# EAGLE library part DEC40PIN (library dec-con)
PIN HEADER
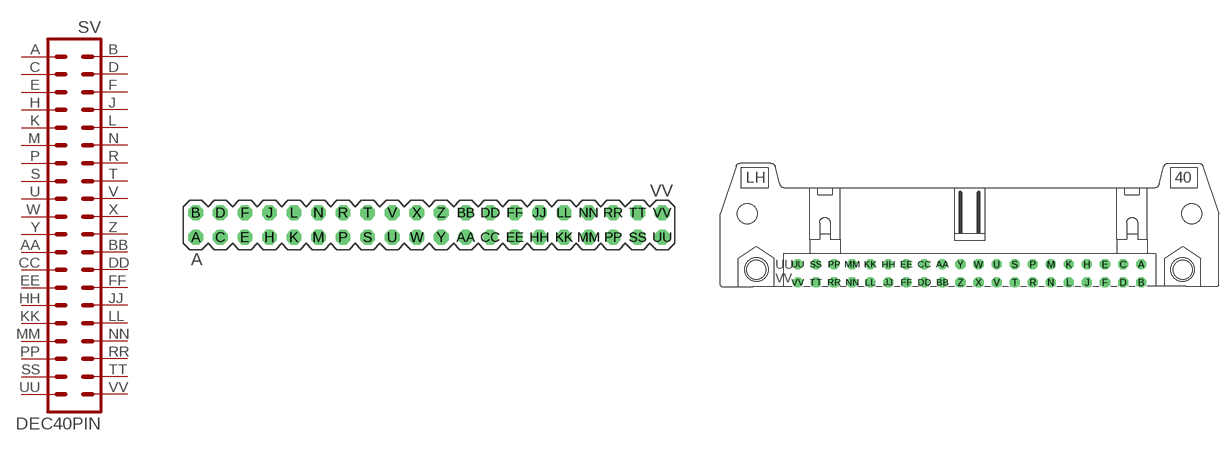
[diagram p8: symbol with the pads of DEC40PINV; footprints DEC40PINV, DEC40PINH]

Designator prefix SV

## DEC40PINV  [DEC40PINV]
A  1  pas
AA  23  pas
B  2  pas
BB  24  pas
C  3  pas
CC  25  pas
D  4  pas
DD  26  pas
E  5  pas
EE  27  pas
F  6  pas
FF  28  pas
H  7  pas
HH  29  pas
J  8  pas
JJ  30  pas
K  9  pas
KK  31  pas
L  10  pas
LL  32  pas
M  11  pas
MM  33  pas
N  12  pas
NN  34  pas
P  13  pas
PP  35  pas
R  14  pas
RR  36  pas
S  15  pas
SS  37  pas
T  16  pas
TT  38  pas
U  17  pas
UU  39  pas
V  18  pas
VV  40  pas
W  19  pas
X  20  pas
Y  21  pas
Z  22  pas

## DEC40PINH  [DEC40PINH]
Pads as for DEC40PINV

## Footprint DEC40PINV (pad centres in mm)
PIN HEADER
drill 1.016 octagon: A -24.13,-1.27; AA 3.81,-1.27; B -24.13,1.27; BB 3.81,1.27; C -21.59,-1.27; CC 6.35,-1.27; D -21.59,1.27; DD 6.35,1.27; E -19.05,-1.27; EE 8.89,-1.27; F -19.05,1.27; FF 8.89,1.27; H -16.51,-1.27; HH 11.43,-1.27; J -16.51,1.27; JJ 11.43,1.27; K -13.97,-1.27; KK 13.97,-1.27; L -13.97,1.27; LL 13.97,1.27; M -11.43,-1.27; MM 16.51,-1.27; N -11.43,1.27; NN 16.51,1.27; P -8.89,-1.27; PP 19.05,-1.27; R -8.89,1.27; RR 19.05,1.27; S -6.35,-1.27; SS 21.59,-1.27; T -6.35,1.27; TT 21.59,1.27; U -3.81,-1.27; UU 24.13,-1.27; V -3.81,1.27; VV 24.13,1.27; W -1.27,-1.27; X -1.27,1.27; Y 1.27,-1.27; Z 1.27,1.27

## Footprint DEC40PINH (pad centres in mm)
CONNECTOR
drill 0.914 octagon: A 24.13,1.27; AA -3.81,1.27; B 24.13,-1.27; BB -3.81,-1.27; C 21.59,1.27; CC -6.35,1.27; D 21.59,-1.27; DD -6.35,-1.27; E 19.05,1.27; EE -8.89,1.27; F 19.05,-1.27; FF -8.89,-1.27; H 16.51,1.27; HH -11.43,1.27; J 16.51,-1.27; JJ -11.43,-1.27; K 13.97,1.27; KK -13.97,1.27; L 13.97,-1.27; LL -13.97,-1.27; M 11.43,1.27; MM -16.51,1.27; N 11.43,-1.27; NN -16.51,-1.27; P 8.89,1.27; PP -19.05,1.27; R 8.89,-1.27; RR -19.05,-1.27; S 6.35,1.27; SS -21.59,1.27; T 6.35,-1.27; TT -21.59,-1.27; U 3.81,1.27; UU -24.13,1.27; V 3.81,-1.27; W 1.27,1.27; X 1.27,-1.27; Y -1.27,1.27; Z -1.27,-1.27
drill 0.914 round: VV -24.13,-1.27
hole 3.302 at -29.972,0.533
hole 3.302 at 29.972,0.533